# EAGLE library part LT1172 (library work)
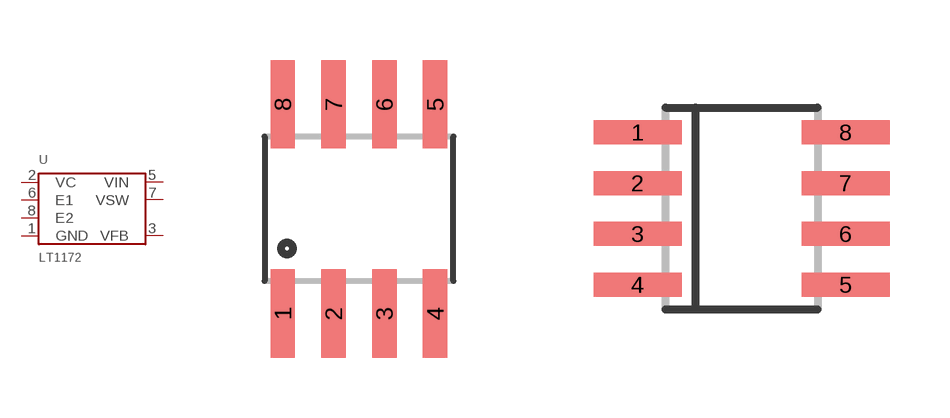
[diagram p53: symbol with the pads of SOIC-8; footprints SOIC-8, SO8]

Designator prefix U

## LT1172-SMD  [SOIC-8]
1  GND
2  VC
3  VFB
5  VIN
6  E1
7  VSW
8  E2

## LT1172  [SO8]
Pads as for SOIC-8

## Footprint SOIC-8 (pad centres in mm)
smd 0.61 x 2.21: 1 -1.905,-2.616; 2 -0.635,-2.616; 3 0.635,-2.616; 4 1.905,-2.616; 5 1.905,2.616; 6 0.635,2.616; 7 -0.635,2.616; 8 -1.905,2.616

## Footprint SO8 (pad centres in mm)
smd 2.2 x 0.6: 1 -2.6,1.905; 2 -2.6,0.635; 3 -2.6,-0.635; 4 -2.6,-1.905; 5 2.6,-1.905; 6 2.6,-0.635; 7 2.6,0.635; 8 2.6,1.905